# Altium schematic symbol library LinearG.SchLib: 1 symbol
Pins are listed as number, name and electrical type; pins without a type are passive.

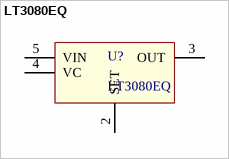
[diagram p0: symbol LT3080EQ]

## LT3080EQ
designator U?
pins: 2 SET, 3 OUT, 4 VC, 5 VIN, TAB OUT